# EAGLE library part BSC520N (library BSC520N)
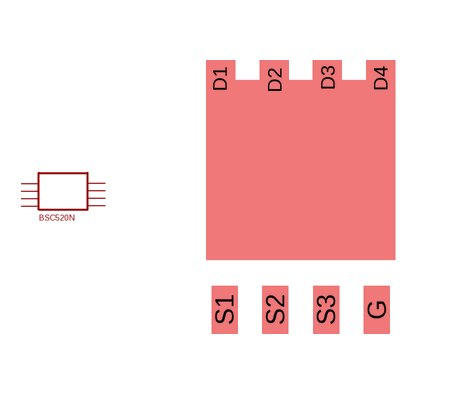
[diagram p0: symbol with the pads of PG-TDSON-8; footprint PG-TDSON-8]

Designator prefix -

## BSC520N  [PG-TDSON-8]
D1  D1
D2  D2
D3  D3
D4  D4
G  G
S1  S1
S2  S2
S3  S3

## Footprint PG-TDSON-8 (pad centres in mm)
smd 0.5 x 0.7: D1 -0.12,5.78; D2 1.25,5.75; D3 2.58,5.81; D4 3.9,5.79
smd 0.65 x 1.2: G 3.81,0; S1 0,0; S2 1.27,0; S3 2.54,0